# EAGLE library part PIC16F1615-X/SL (library pic16f1615_SL)
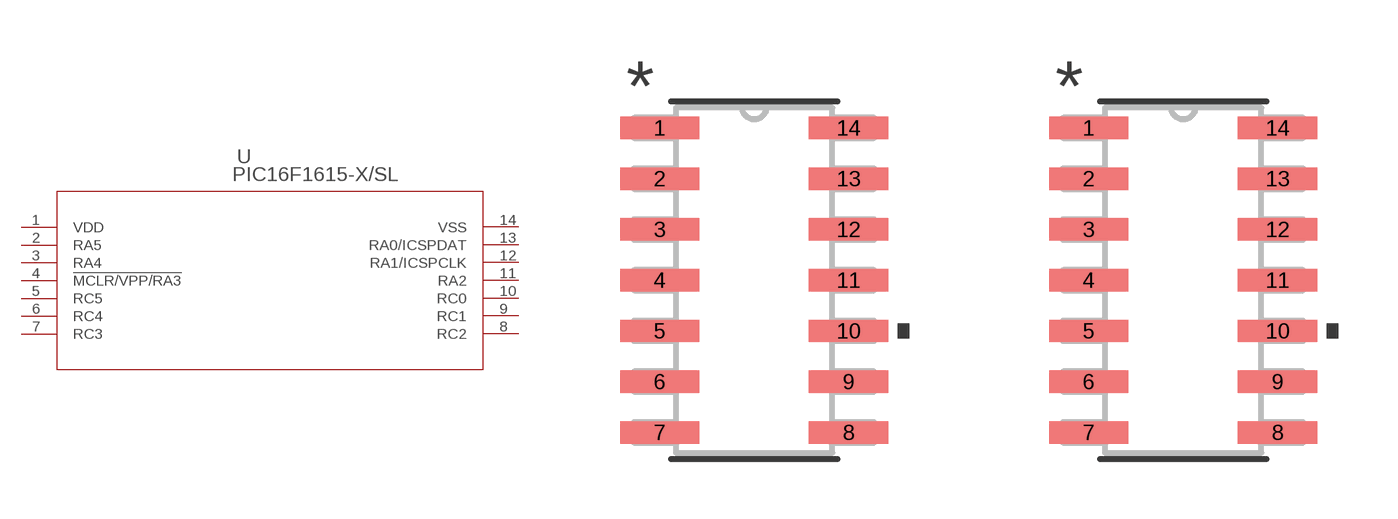
[diagram p0: symbol with the pads of SOIC14_SL; footprints SOIC14_SL, SOIC14_SL-M]

Designator prefix U

## PIC16F1615-X/SL (MANUFACTURER_PART_NUMBER: pic16f1615xsl; VENDOR: Microchip)  [SOIC14_SL]
1  VDD  pwr
2  RA5
3  RA4
4  !MCLR/VPP/RA3
5  RC5
6  RC4
7  RC3
8  RC2
9  RC1
10  RC0
11  RA2
12  RA1/ICSPCLK
13  RA0/ICSPDAT
14  VSS  pwr

## PIC16F1615-X/SLSOIC14_SL-M (MANUFACTURER_PART_NUMBER: pic16f1615xsl; VENDOR: Microchip)  [SOIC14_SL-M]
Pads as for SOIC14_SL

## PIC16F1615-X/SLSOIC14_SL-L (MANUFACTURER_PART_NUMBER: pic16f1615xsl; VENDOR: Microchip)  [SOIC14_SL-L]
Pads as for SOIC14_SL

## Footprint SOIC14_SL (pad centres in mm)
smd 1.981 x 0.559: 1 -2.362,3.81; 2 -2.362,2.54; 3 -2.362,1.27; 4 -2.362,0; 5 -2.362,-1.27; 6 -2.362,-2.54; 7 -2.362,-3.81; 8 2.362,-3.81; 9 2.362,-2.54; 10 2.362,-1.27; 11 2.362,0; 12 2.362,1.27; 13 2.362,2.54; 14 2.362,3.81

## Footprint SOIC14_SL-M (pad centres in mm)
smd 1.981 x 0.559: 1 -2.362,3.81; 2 -2.362,2.54; 3 -2.362,1.27; 4 -2.362,0; 5 -2.362,-1.27; 6 -2.362,-2.54; 7 -2.362,-3.81; 8 2.362,-3.81; 9 2.362,-2.54; 10 2.362,-1.27; 11 2.362,0; 12 2.362,1.27; 13 2.362,2.54; 14 2.362,3.81

## Footprint SOIC14_SL-L (pad centres in mm)
smd 1.981 x 0.559: 1 -2.362,3.81; 2 -2.362,2.54; 3 -2.362,1.27; 4 -2.362,0; 5 -2.362,-1.27; 6 -2.362,-2.54; 7 -2.362,-3.81; 8 2.362,-3.81; 9 2.362,-2.54; 10 2.362,-1.27; 11 2.362,0; 12 2.362,1.27; 13 2.362,2.54; 14 2.362,3.81